# Altium footprint library Connector_Samtec_HLE_SMD.PcbLib: 290 footprints (part 22 of 24)
Each footprint in its own frame and in the unit in brackets; x right, y up, seen from the top. Pads: shape width x height; smd on the part's side, far side on the other; paste and mask are expansions set on the pad; w line width, h text height; cw(c..) or ccw(c..) is an arc to the next point about the centre after c.
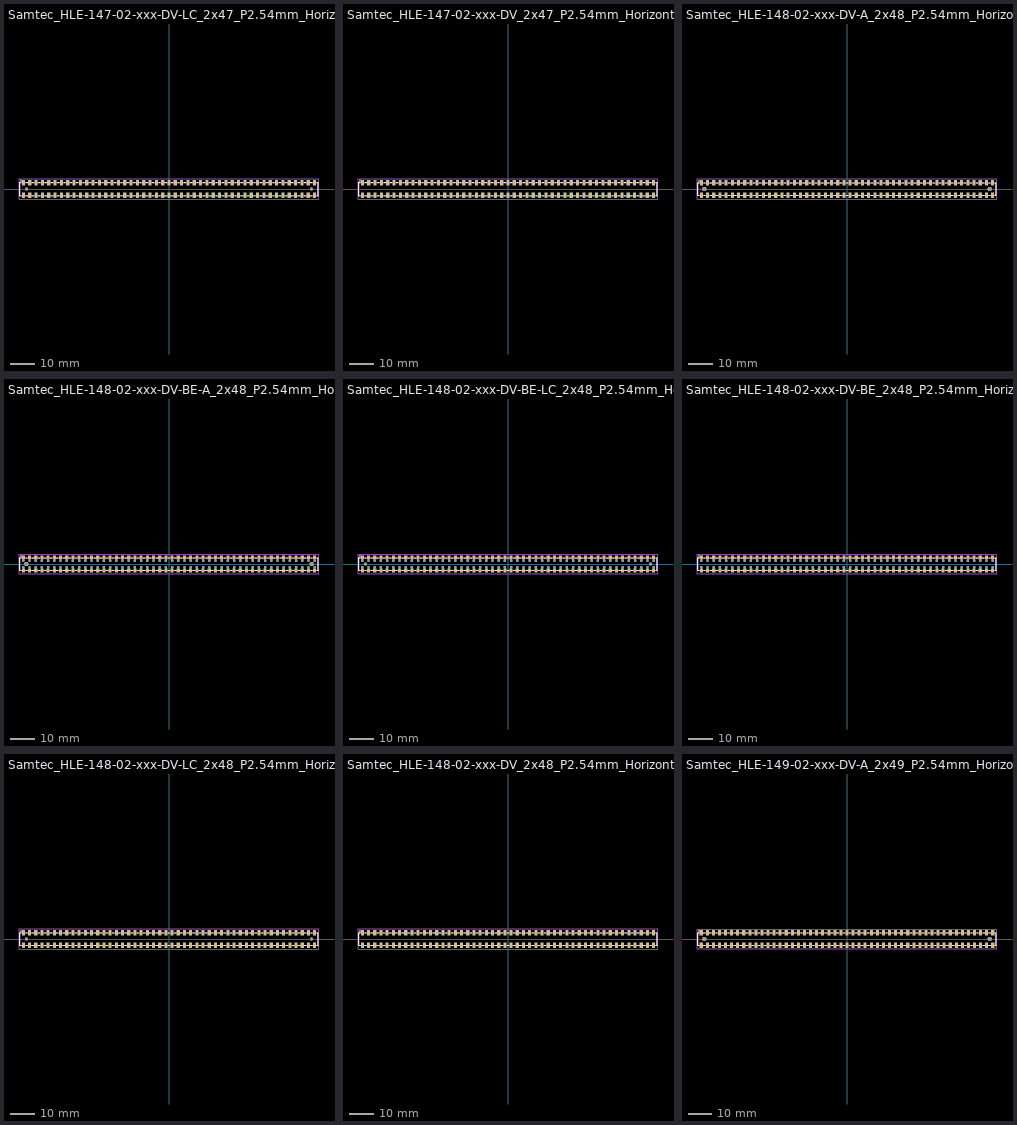
[diagram p21: the footprints below, top view; thin cyan lines are the x and y axes]

## Samtec_HLE-147-02-xxx-DV-LC_2x47_P2.54mm_Horizontal [mm]
pads (96):
  rect 1.27x2.29 smd: 1(-58.42,2.525) 2(-58.42,-2.525) 3(-55.88,2.525) 4(-55.88,-2.525) 5(-53.34,2.525) 6(-53.34,-2.525) 7(-50.8,2.525) 8(-50.8,-2.525) 9(-48.26,2.525) 10(-48.26,-2.525) 11(-45.72,2.525) 12(-45.72,-2.525) 13(-43.18,2.525) 14(-43.18,-2.525) 15(-40.64,2.525) 16(-40.64,-2.525) 17(-38.1,2.525) 18(-38.1,-2.525) 19(-35.56,2.525) 20(-35.56,-2.525) 21(-33.02,2.525) 22(-33.02,-2.525) 23(-30.48,2.525) 24(-30.48,-2.525) 25(-27.94,2.525) 26(-27.94,-2.525) 27(-25.4,2.525) 28(-25.4,-2.525) 29(-22.86,2.525) 30(-22.86,-2.525) 31(-20.32,2.525) 32(-20.32,-2.525) 33(-17.78,2.525) 34(-17.78,-2.525) 35(-15.24,2.525) 36(-15.24,-2.525) 37(-12.7,2.525) 38(-12.7,-2.525) 39(-10.16,2.525) 40(-10.16,-2.525) 41(-7.62,2.525) 42(-7.62,-2.525) 43(-5.08,2.525) 44(-5.08,-2.525) 45(-2.54,2.525) 46(-2.54,-2.525) 47(0,2.525) 48(0,-2.525) 49(2.54,2.525) 50(2.54,-2.525) 51(5.08,2.525) 52(5.08,-2.525) 53(7.62,2.525) 54(7.62,-2.525) 55(10.16,2.525) 56(10.16,-2.525) 57(12.7,2.525) 58(12.7,-2.525) 59(15.24,2.525) 60(15.24,-2.525) 61(17.78,2.525) 62(17.78,-2.525) 63(20.32,2.525) 64(20.32,-2.525) 65(22.86,2.525) 66(22.86,-2.525) 67(25.4,2.525) 68(25.4,-2.525) 69(27.94,2.525) 70(27.94,-2.525) 71(30.48,2.525) 72(30.48,-2.525) 73(33.02,2.525) 74(33.02,-2.525) 75(35.56,2.525) 76(35.56,-2.525) 77(38.1,2.525) 78(38.1,-2.525) 79(40.64,2.525) 80(40.64,-2.525) 81(43.18,2.525) 82(43.18,-2.525) 83(45.72,2.525) 84(45.72,-2.525) 85(48.26,2.525) 86(48.26,-2.525) 87(50.8,2.525) 88(50.8,-2.525) 89(53.34,2.525) 90(53.34,-2.525) 91(55.88,2.525) 92(55.88,-2.525) 93(58.42,2.525) 94(58.42,-2.525)
  round 1.19 hole 1.19: Un1(-57.15,0) Un2(57.15,0)
F.SilkS:
  lines w0.254: -59.315,-2.65 -59.8,-2.65 -59.8,2.65 -59.315,2.65 -59.315,3.67 ; -57.525,-2.65 -56.775,-2.65 ; -57.525,2.65 -56.775,2.65 ; -54.985,-2.65 -54.235,-2.65 ; -54.985,2.65 -54.235,2.65 ; -52.445,-2.65 -51.695,-2.65 ; -52.445,2.65 -51.695,2.65 ; -49.905,-2.65 -49.155,-2.65 ; -49.905,2.65 -49.155,2.65 ; -47.365,-2.65 -46.615,-2.65 ; -47.365,2.65 -46.615,2.65 ; -44.825,-2.65 -44.075,-2.65 ; -44.825,2.65 -44.075,2.65 ; -42.285,-2.65 -41.535,-2.65 ; -42.285,2.65 -41.535,2.65 ; -39.745,-2.65 -38.995,-2.65 ; -39.745,2.65 -38.995,2.65 ; -37.205,-2.65 -36.455,-2.65 ; -37.205,2.65 -36.455,2.65 ; -34.665,-2.65 -33.915,-2.65 ; -34.665,2.65 -33.915,2.65 ; -32.125,-2.65 -31.375,-2.65 ; -32.125,2.65 -31.375,2.65 ; -29.585,-2.65 -28.835,-2.65 ; -29.585,2.65 -28.835,2.65 ; -27.045,-2.65 -26.295,-2.65 ; -27.045,2.65 -26.295,2.65 ; -24.505,-2.65 -23.755,-2.65 ; -24.505,2.65 -23.755,2.65 ; -21.965,-2.65 -21.215,-2.65 ; -21.965,2.65 -21.215,2.65 ; -19.425,-2.65 -18.675,-2.65 ; -19.425,2.65 -18.675,2.65 ; -16.885,-2.65 -16.135,-2.65 ; -16.885,2.65 -16.135,2.65 ; -14.345,-2.65 -13.595,-2.65 ; -14.345,2.65 -13.595,2.65 ; -11.805,-2.65 -11.055,-2.65 ; -11.805,2.65 -11.055,2.65 ; -9.265,-2.65 -8.515,-2.65 ; -9.265,2.65 -8.515,2.65 ; -6.725,-2.65 -5.975,-2.65 ; -6.725,2.65 -5.975,2.65 ; -4.185,-2.65 -3.435,-2.65 ; -4.185,2.65 -3.435,2.65 ; -1.645,-2.65 -0.895,-2.65 ; -1.645,2.65 -0.895,2.65 ; 0.895,-2.65 1.645,-2.65 ; 0.895,2.65 1.645,2.65 ; 3.435,-2.65 4.185,-2.65 ; 3.435,2.65 4.185,2.65 ; 5.975,-2.65 6.725,-2.65 ; 5.975,2.65 6.725,2.65 ; 8.515,-2.65 9.265,-2.65 ; 8.515,2.65 9.265,2.65 ; 11.055,-2.65 11.805,-2.65 ; 11.055,2.65 11.805,2.65 ; 13.595,-2.65 14.345,-2.65 ; 13.595,2.65 14.345,2.65 ; 16.135,-2.65 16.885,-2.65 ; 16.135,2.65 16.885,2.65 ; 18.675,-2.65 19.425,-2.65 ; 18.675,2.65 19.425,2.65 ; 21.215,-2.65 21.965,-2.65 ; 21.215,2.65 21.965,2.65 ; 23.755,-2.65 24.505,-2.65 ; 23.755,2.65 24.505,2.65 ; 26.295,-2.65 27.045,-2.65 ; 26.295,2.65 27.045,2.65 ; 28.835,-2.65 29.585,-2.65 ; 28.835,2.65 29.585,2.65 ; 31.375,-2.65 32.125,-2.65 ; 31.375,2.65 32.125,2.65 ; 33.915,-2.65 34.665,-2.65 ; 33.915,2.65 34.665,2.65 ; 36.455,-2.65 37.205,-2.65 ; 36.455,2.65 37.205,2.65 ; 38.995,-2.65 39.745,-2.65 ; 38.995,2.65 39.745,2.65 ; 41.535,-2.65 42.285,-2.65 ; 41.535,2.65 42.285,2.65 ; 44.075,-2.65 44.825,-2.65 ; 44.075,2.65 44.825,2.65 ; 46.615,-2.65 47.365,-2.65 ; 46.615,2.65 47.365,2.65 ; 49.155,-2.65 49.905,-2.65 ; 49.155,2.65 49.905,2.65 ; 51.695,-2.65 52.445,-2.65 ; 51.695,2.65 52.445,2.65 ; 54.235,-2.65 54.985,-2.65 ; 54.235,2.65 54.985,2.65 ; 56.775,-2.65 57.525,-2.65 ; 56.775,2.65 57.525,2.65 ; 59.315,-2.65 59.8,-2.65 59.8,2.65 59.315,2.65
Top Assembly:
  lines w0.254: -58.92,2.54 -58.42,1.833 -57.92,2.54 ; -59.69,-2.54 59.69,-2.54 59.69,2.54 -59.69,2.54 -59.69,-2.54
  text "'.Designator'" at -4.047,-2.68 h1
Top Courtyard:
  lines w0.254: -60.19,-4.17 60.19,-4.17 60.19,4.17 -60.19,4.17 -60.19,-4.17
Top Designator:
  text ".Designator" at -7.618,-0.508 h1.52

## Samtec_HLE-147-02-xxx-DV_2x47_P2.54mm_Horizontal [mm]
pads (94):
  rect 1.27x2.29 smd: 1(-58.42,2.525) 2(-58.42,-2.525) 3(-55.88,2.525) 4(-55.88,-2.525) 5(-53.34,2.525) 6(-53.34,-2.525) 7(-50.8,2.525) 8(-50.8,-2.525) 9(-48.26,2.525) 10(-48.26,-2.525) 11(-45.72,2.525) 12(-45.72,-2.525) 13(-43.18,2.525) 14(-43.18,-2.525) 15(-40.64,2.525) 16(-40.64,-2.525) 17(-38.1,2.525) 18(-38.1,-2.525) 19(-35.56,2.525) 20(-35.56,-2.525) 21(-33.02,2.525) 22(-33.02,-2.525) 23(-30.48,2.525) 24(-30.48,-2.525) 25(-27.94,2.525) 26(-27.94,-2.525) 27(-25.4,2.525) 28(-25.4,-2.525) 29(-22.86,2.525) 30(-22.86,-2.525) 31(-20.32,2.525) 32(-20.32,-2.525) 33(-17.78,2.525) 34(-17.78,-2.525) 35(-15.24,2.525) 36(-15.24,-2.525) 37(-12.7,2.525) 38(-12.7,-2.525) 39(-10.16,2.525) 40(-10.16,-2.525) 41(-7.62,2.525) 42(-7.62,-2.525) 43(-5.08,2.525) 44(-5.08,-2.525) 45(-2.54,2.525) 46(-2.54,-2.525) 47(0,2.525) 48(0,-2.525) 49(2.54,2.525) 50(2.54,-2.525) 51(5.08,2.525) 52(5.08,-2.525) 53(7.62,2.525) 54(7.62,-2.525) 55(10.16,2.525) 56(10.16,-2.525) 57(12.7,2.525) 58(12.7,-2.525) 59(15.24,2.525) 60(15.24,-2.525) 61(17.78,2.525) 62(17.78,-2.525) 63(20.32,2.525) 64(20.32,-2.525) 65(22.86,2.525) 66(22.86,-2.525) 67(25.4,2.525) 68(25.4,-2.525) 69(27.94,2.525) 70(27.94,-2.525) 71(30.48,2.525) 72(30.48,-2.525) 73(33.02,2.525) 74(33.02,-2.525) 75(35.56,2.525) 76(35.56,-2.525) 77(38.1,2.525) 78(38.1,-2.525) 79(40.64,2.525) 80(40.64,-2.525) 81(43.18,2.525) 82(43.18,-2.525) 83(45.72,2.525) 84(45.72,-2.525) 85(48.26,2.525) 86(48.26,-2.525) 87(50.8,2.525) 88(50.8,-2.525) 89(53.34,2.525) 90(53.34,-2.525) 91(55.88,2.525) 92(55.88,-2.525) 93(58.42,2.525) 94(58.42,-2.525)
F.SilkS:
  lines w0.254: -59.315,-2.65 -59.8,-2.65 -59.8,2.65 -59.315,2.65 -59.315,3.67 ; -57.525,-2.65 -56.775,-2.65 ; -57.525,2.65 -56.775,2.65 ; -54.985,-2.65 -54.235,-2.65 ; -54.985,2.65 -54.235,2.65 ; -52.445,-2.65 -51.695,-2.65 ; -52.445,2.65 -51.695,2.65 ; -49.905,-2.65 -49.155,-2.65 ; -49.905,2.65 -49.155,2.65 ; -47.365,-2.65 -46.615,-2.65 ; -47.365,2.65 -46.615,2.65 ; -44.825,-2.65 -44.075,-2.65 ; -44.825,2.65 -44.075,2.65 ; -42.285,-2.65 -41.535,-2.65 ; -42.285,2.65 -41.535,2.65 ; -39.745,-2.65 -38.995,-2.65 ; -39.745,2.65 -38.995,2.65 ; -37.205,-2.65 -36.455,-2.65 ; -37.205,2.65 -36.455,2.65 ; -34.665,-2.65 -33.915,-2.65 ; -34.665,2.65 -33.915,2.65 ; -32.125,-2.65 -31.375,-2.65 ; -32.125,2.65 -31.375,2.65 ; -29.585,-2.65 -28.835,-2.65 ; -29.585,2.65 -28.835,2.65 ; -27.045,-2.65 -26.295,-2.65 ; -27.045,2.65 -26.295,2.65 ; -24.505,-2.65 -23.755,-2.65 ; -24.505,2.65 -23.755,2.65 ; -21.965,-2.65 -21.215,-2.65 ; -21.965,2.65 -21.215,2.65 ; -19.425,-2.65 -18.675,-2.65 ; -19.425,2.65 -18.675,2.65 ; -16.885,-2.65 -16.135,-2.65 ; -16.885,2.65 -16.135,2.65 ; -14.345,-2.65 -13.595,-2.65 ; -14.345,2.65 -13.595,2.65 ; -11.805,-2.65 -11.055,-2.65 ; -11.805,2.65 -11.055,2.65 ; -9.265,-2.65 -8.515,-2.65 ; -9.265,2.65 -8.515,2.65 ; -6.725,-2.65 -5.975,-2.65 ; -6.725,2.65 -5.975,2.65 ; -4.185,-2.65 -3.435,-2.65 ; -4.185,2.65 -3.435,2.65 ; -1.645,-2.65 -0.895,-2.65 ; -1.645,2.65 -0.895,2.65 ; 0.895,-2.65 1.645,-2.65 ; 0.895,2.65 1.645,2.65 ; 3.435,-2.65 4.185,-2.65 ; 3.435,2.65 4.185,2.65 ; 5.975,-2.65 6.725,-2.65 ; 5.975,2.65 6.725,2.65 ; 8.515,-2.65 9.265,-2.65 ; 8.515,2.65 9.265,2.65 ; 11.055,-2.65 11.805,-2.65 ; 11.055,2.65 11.805,2.65 ; 13.595,-2.65 14.345,-2.65 ; 13.595,2.65 14.345,2.65 ; 16.135,-2.65 16.885,-2.65 ; 16.135,2.65 16.885,2.65 ; 18.675,-2.65 19.425,-2.65 ; 18.675,2.65 19.425,2.65 ; 21.215,-2.65 21.965,-2.65 ; 21.215,2.65 21.965,2.65 ; 23.755,-2.65 24.505,-2.65 ; 23.755,2.65 24.505,2.65 ; 26.295,-2.65 27.045,-2.65 ; 26.295,2.65 27.045,2.65 ; 28.835,-2.65 29.585,-2.65 ; 28.835,2.65 29.585,2.65 ; 31.375,-2.65 32.125,-2.65 ; 31.375,2.65 32.125,2.65 ; 33.915,-2.65 34.665,-2.65 ; 33.915,2.65 34.665,2.65 ; 36.455,-2.65 37.205,-2.65 ; 36.455,2.65 37.205,2.65 ; 38.995,-2.65 39.745,-2.65 ; 38.995,2.65 39.745,2.65 ; 41.535,-2.65 42.285,-2.65 ; 41.535,2.65 42.285,2.65 ; 44.075,-2.65 44.825,-2.65 ; 44.075,2.65 44.825,2.65 ; 46.615,-2.65 47.365,-2.65 ; 46.615,2.65 47.365,2.65 ; 49.155,-2.65 49.905,-2.65 ; 49.155,2.65 49.905,2.65 ; 51.695,-2.65 52.445,-2.65 ; 51.695,2.65 52.445,2.65 ; 54.235,-2.65 54.985,-2.65 ; 54.235,2.65 54.985,2.65 ; 56.775,-2.65 57.525,-2.65 ; 56.775,2.65 57.525,2.65 ; 59.315,-2.65 59.8,-2.65 59.8,2.65 59.315,2.65
Top Assembly:
  lines w0.254: -58.92,2.54 -58.42,1.833 -57.92,2.54 ; -59.69,-2.54 59.69,-2.54 59.69,2.54 -59.69,2.54 -59.69,-2.54
  text "'.Designator'" at -4.047,-2.68 h1
Top Courtyard:
  lines w0.254: -60.19,-4.17 60.19,-4.17 60.19,4.17 -60.19,4.17 -60.19,-4.17
Top Designator:
  text ".Designator" at -7.618,-0.508 h1.52

## Samtec_HLE-148-02-xxx-DV-A_2x48_P2.54mm_Horizontal [mm]
pads (98):
  rect 1.27x2.29 smd: 1(-59.69,2.525) 2(-59.69,-2.525) 3(-57.15,2.525) 4(-57.15,-2.525) 5(-54.61,2.525) 6(-54.61,-2.525) 7(-52.07,2.525) 8(-52.07,-2.525) 9(-49.53,2.525) 10(-49.53,-2.525) 11(-46.99,2.525) 12(-46.99,-2.525) 13(-44.45,2.525) 14(-44.45,-2.525) 15(-41.91,2.525) 16(-41.91,-2.525) 17(-39.37,2.525) 18(-39.37,-2.525) 19(-36.83,2.525) 20(-36.83,-2.525) 21(-34.29,2.525) 22(-34.29,-2.525) 23(-31.75,2.525) 24(-31.75,-2.525) 25(-29.21,2.525) 26(-29.21,-2.525) 27(-26.67,2.525) 28(-26.67,-2.525) 29(-24.13,2.525) 30(-24.13,-2.525) 31(-21.59,2.525) 32(-21.59,-2.525) 33(-19.05,2.525) 34(-19.05,-2.525) 35(-16.51,2.525) 36(-16.51,-2.525) 37(-13.97,2.525) 38(-13.97,-2.525) 39(-11.43,2.525) 40(-11.43,-2.525) 41(-8.89,2.525) 42(-8.89,-2.525) 43(-6.35,2.525) 44(-6.35,-2.525) 45(-3.81,2.525) 46(-3.81,-2.525) 47(-1.27,2.525) 48(-1.27,-2.525) 49(1.27,2.525) 50(1.27,-2.525) 51(3.81,2.525) 52(3.81,-2.525) 53(6.35,2.525) 54(6.35,-2.525) 55(8.89,2.525) 56(8.89,-2.525) 57(11.43,2.525) 58(11.43,-2.525) 59(13.97,2.525) 60(13.97,-2.525) 61(16.51,2.525) 62(16.51,-2.525) 63(19.05,2.525) 64(19.05,-2.525) 65(21.59,2.525) 66(21.59,-2.525) 67(24.13,2.525) 68(24.13,-2.525) 69(26.67,2.525) 70(26.67,-2.525) 71(29.21,2.525) 72(29.21,-2.525) 73(31.75,2.525) 74(31.75,-2.525) 75(34.29,2.525) 76(34.29,-2.525) 77(36.83,2.525) 78(36.83,-2.525) 79(39.37,2.525) 80(39.37,-2.525) 81(41.91,2.525) 82(41.91,-2.525) 83(44.45,2.525) 84(44.45,-2.525) 85(46.99,2.525) 86(46.99,-2.525) 87(49.53,2.525) 88(49.53,-2.525) 89(52.07,2.525) 90(52.07,-2.525) 91(54.61,2.525) 92(54.61,-2.525) 93(57.15,2.525) 94(57.15,-2.525) 95(59.69,2.525) 96(59.69,-2.525)
  round 1.78 hole 1.78: Un1(-58.42,0) Un2(58.42,0)
F.SilkS:
  lines w0.254: -60.585,-2.65 -61.07,-2.65 -61.07,2.65 -60.585,2.65 -60.585,3.67 ; -58.795,-2.65 -58.045,-2.65 ; -58.795,2.65 -58.045,2.65 ; -56.255,-2.65 -55.505,-2.65 ; -56.255,2.65 -55.505,2.65 ; -53.715,-2.65 -52.965,-2.65 ; -53.715,2.65 -52.965,2.65 ; -51.175,-2.65 -50.425,-2.65 ; -51.175,2.65 -50.425,2.65 ; -48.635,-2.65 -47.885,-2.65 ; -48.635,2.65 -47.885,2.65 ; -46.095,-2.65 -45.345,-2.65 ; -46.095,2.65 -45.345,2.65 ; -43.555,-2.65 -42.805,-2.65 ; -43.555,2.65 -42.805,2.65 ; -41.015,-2.65 -40.265,-2.65 ; -41.015,2.65 -40.265,2.65 ; -38.475,-2.65 -37.725,-2.65 ; -38.475,2.65 -37.725,2.65 ; -35.935,-2.65 -35.185,-2.65 ; -35.935,2.65 -35.185,2.65 ; -33.395,-2.65 -32.645,-2.65 ; -33.395,2.65 -32.645,2.65 ; -30.855,-2.65 -30.105,-2.65 ; -30.855,2.65 -30.105,2.65 ; -28.315,-2.65 -27.565,-2.65 ; -28.315,2.65 -27.565,2.65 ; -25.775,-2.65 -25.025,-2.65 ; -25.775,2.65 -25.025,2.65 ; -23.235,-2.65 -22.485,-2.65 ; -23.235,2.65 -22.485,2.65 ; -20.695,-2.65 -19.945,-2.65 ; -20.695,2.65 -19.945,2.65 ; -18.155,-2.65 -17.405,-2.65 ; -18.155,2.65 -17.405,2.65 ; -15.615,-2.65 -14.865,-2.65 ; -15.615,2.65 -14.865,2.65 ; -13.075,-2.65 -12.325,-2.65 ; -13.075,2.65 -12.325,2.65 ; -10.535,-2.65 -9.785,-2.65 ; -10.535,2.65 -9.785,2.65 ; -7.995,-2.65 -7.245,-2.65 ; -7.995,2.65 -7.245,2.65 ; -5.455,-2.65 -4.705,-2.65 ; -5.455,2.65 -4.705,2.65 ; -2.915,-2.65 -2.165,-2.65 ; -2.915,2.65 -2.165,2.65 ; -0.375,-2.65 0.375,-2.65 ; -0.375,2.65 0.375,2.65 ; 2.165,-2.65 2.915,-2.65 ; 2.165,2.65 2.915,2.65 ; 4.705,-2.65 5.455,-2.65 ; 4.705,2.65 5.455,2.65 ; 7.245,-2.65 7.995,-2.65 ; 7.245,2.65 7.995,2.65 ; 9.785,-2.65 10.535,-2.65 ; 9.785,2.65 10.535,2.65 ; 12.325,-2.65 13.075,-2.65 ; 12.325,2.65 13.075,2.65 ; 14.865,-2.65 15.615,-2.65 ; 14.865,2.65 15.615,2.65 ; 17.405,-2.65 18.155,-2.65 ; 17.405,2.65 18.155,2.65 ; 19.945,-2.65 20.695,-2.65 ; 19.945,2.65 20.695,2.65 ; 22.485,-2.65 23.235,-2.65 ; 22.485,2.65 23.235,2.65 ; 25.025,-2.65 25.775,-2.65 ; 25.025,2.65 25.775,2.65 ; 27.565,-2.65 28.315,-2.65 ; 27.565,2.65 28.315,2.65 ; 30.105,-2.65 30.855,-2.65 ; 30.105,2.65 30.855,2.65 ; 32.645,-2.65 33.395,-2.65 ; 32.645,2.65 33.395,2.65 ; 35.185,-2.65 35.935,-2.65 ; 35.185,2.65 35.935,2.65 ; 37.725,-2.65 38.475,-2.65 ; 37.725,2.65 38.475,2.65 ; 40.265,-2.65 41.015,-2.65 ; 40.265,2.65 41.015,2.65 ; 42.805,-2.65 43.555,-2.65 ; 42.805,2.65 43.555,2.65 ; 45.345,-2.65 46.095,-2.65 ; 45.345,2.65 46.095,2.65 ; 47.885,-2.65 48.635,-2.65 ; 47.885,2.65 48.635,2.65 ; 50.425,-2.65 51.175,-2.65 ; 50.425,2.65 51.175,2.65 ; 52.965,-2.65 53.715,-2.65 ; 52.965,2.65 53.715,2.65 ; 55.505,-2.65 56.255,-2.65 ; 55.505,2.65 56.255,2.65 ; 58.045,-2.65 58.795,-2.65 ; 58.045,2.65 58.795,2.65 ; 60.585,-2.65 61.07,-2.65 61.07,2.65 60.585,2.65
Top Assembly:
  lines w0.254: -60.19,2.54 -59.69,1.833 -59.19,2.54 ; -60.96,-2.54 60.96,-2.54 60.96,2.54 -60.96,2.54 -60.96,-2.54
  text "'.Designator'" at -4.047,-2.68 h1
Top Courtyard:
  lines w0.254: -61.46,-4.17 61.46,-4.17 61.46,4.17 -61.46,4.17 -61.46,-4.17
Top Designator:
  text ".Designator" at -7.618,-0.508 h1.52

## Samtec_HLE-148-02-xxx-DV-BE-A_2x48_P2.54mm_Horizontal [mm]
pads (194):
  rect 1.27x1.68 smd: 1(-59.69,2.72) 2(-59.69,-2.72) 3(-57.15,2.72) 4(-57.15,-2.72) 5(-54.61,2.72) 6(-54.61,-2.72) 7(-52.07,2.72) 8(-52.07,-2.72) 9(-49.53,2.72) 10(-49.53,-2.72) 11(-46.99,2.72) 12(-46.99,-2.72) 13(-44.45,2.72) 14(-44.45,-2.72) 15(-41.91,2.72) 16(-41.91,-2.72) 17(-39.37,2.72) 18(-39.37,-2.72) 19(-36.83,2.72) 20(-36.83,-2.72) 21(-34.29,2.72) 22(-34.29,-2.72) 23(-31.75,2.72) 24(-31.75,-2.72) 25(-29.21,2.72) 26(-29.21,-2.72) 27(-26.67,2.72) 28(-26.67,-2.72) 29(-24.13,2.72) 30(-24.13,-2.72) 31(-21.59,2.72) 32(-21.59,-2.72) 33(-19.05,2.72) 34(-19.05,-2.72) 35(-16.51,2.72) 36(-16.51,-2.72) 37(-13.97,2.72) 38(-13.97,-2.72) 39(-11.43,2.72) 40(-11.43,-2.72) 41(-8.89,2.72) 42(-8.89,-2.72) 43(-6.35,2.72) 44(-6.35,-2.72) 45(-3.81,2.72) 46(-3.81,-2.72) 47(-1.27,2.72) 48(-1.27,-2.72) 49(1.27,2.72) 50(1.27,-2.72) 51(3.81,2.72) 52(3.81,-2.72) 53(6.35,2.72) 54(6.35,-2.72) 55(8.89,2.72) 56(8.89,-2.72) 57(11.43,2.72) 58(11.43,-2.72) 59(13.97,2.72) 60(13.97,-2.72) 61(16.51,2.72) 62(16.51,-2.72) 63(19.05,2.72) 64(19.05,-2.72) 65(21.59,2.72) 66(21.59,-2.72) 67(24.13,2.72) 68(24.13,-2.72) 69(26.67,2.72) 70(26.67,-2.72) 71(29.21,2.72) 72(29.21,-2.72) 73(31.75,2.72) 74(31.75,-2.72) 75(34.29,2.72) 76(34.29,-2.72) 77(36.83,2.72) 78(36.83,-2.72) 79(39.37,2.72) 80(39.37,-2.72) 81(41.91,2.72) 82(41.91,-2.72) 83(44.45,2.72) 84(44.45,-2.72) 85(46.99,2.72) 86(46.99,-2.72) 87(49.53,2.72) 88(49.53,-2.72) 89(52.07,2.72) 90(52.07,-2.72) 91(54.61,2.72) 92(54.61,-2.72) 93(57.15,2.72) 94(57.15,-2.72) 95(59.69,2.72) 96(59.69,-2.72)
  round 0.97 hole 0.97: Un1(-59.69,1.27) Un2(-59.69,-1.27) Un4(-57.15,1.27) Un5(-57.15,-1.27) Un6(-54.61,1.27) Un7(-54.61,-1.27) Un8(-52.07,1.27) Un9(-52.07,-1.27) Un10(-49.53,1.27) Un11(-49.53,-1.27) Un12(-46.99,1.27) Un13(-46.99,-1.27) Un14(-44.45,1.27) Un15(-44.45,-1.27) Un16(-41.91,1.27) Un17(-41.91,-1.27) Un18(-39.37,1.27) Un19(-39.37,-1.27) Un20(-36.83,1.27) Un21(-36.83,-1.27) Un22(-34.29,1.27) Un23(-34.29,-1.27) Un24(-31.75,1.27) Un25(-31.75,-1.27) Un26(-29.21,1.27) Un27(-29.21,-1.27) Un28(-26.67,1.27) Un29(-26.67,-1.27) Un30(-24.13,1.27) Un31(-24.13,-1.27) Un32(-21.59,1.27) Un33(-21.59,-1.27) Un34(-19.05,1.27) Un35(-19.05,-1.27) Un36(-16.51,1.27) Un37(-16.51,-1.27) Un38(-13.97,1.27) Un39(-13.97,-1.27) Un40(-11.43,1.27) Un41(-11.43,-1.27) Un42(-8.89,1.27) Un43(-8.89,-1.27) Un44(-6.35,1.27) Un45(-6.35,-1.27) Un46(-3.81,1.27) Un47(-3.81,-1.27) Un48(-1.27,1.27) Un49(-1.27,-1.27) Un50(1.27,1.27) Un51(1.27,-1.27) Un52(3.81,1.27) Un53(3.81,-1.27) Un54(6.35,1.27) Un55(6.35,-1.27) Un56(8.89,1.27) Un57(8.89,-1.27) Un58(11.43,1.27) Un59(11.43,-1.27) Un60(13.97,1.27) Un61(13.97,-1.27) Un62(16.51,1.27) Un63(16.51,-1.27) Un64(19.05,1.27) Un65(19.05,-1.27) Un66(21.59,1.27) Un67(21.59,-1.27) Un68(24.13,1.27) Un69(24.13,-1.27) Un70(26.67,1.27) Un71(26.67,-1.27) Un72(29.21,1.27) Un73(29.21,-1.27) Un74(31.75,1.27) Un75(31.75,-1.27) Un76(34.29,1.27) Un77(34.29,-1.27) Un78(36.83,1.27) Un79(36.83,-1.27) Un80(39.37,1.27) Un81(39.37,-1.27) Un82(41.91,1.27) Un83(41.91,-1.27) Un84(44.45,1.27) Un85(44.45,-1.27) Un86(46.99,1.27) Un87(46.99,-1.27) Un88(49.53,1.27) Un89(49.53,-1.27) Un90(52.07,1.27) Un91(52.07,-1.27) Un92(54.61,1.27) Un93(54.61,-1.27) Un94(57.15,1.27) Un95(57.15,-1.27) Un97(59.69,1.27) Un98(59.69,-1.27)
  round 1.78 hole 1.78: Un3(-58.42,0) Un96(58.42,0)
F.SilkS:
  lines w0.254: -60.585,-2.65 -61.07,-2.65 -61.07,2.65 -60.585,2.65 -60.585,3.56 ; -58.795,-2.65 -58.045,-2.65 ; -58.795,2.65 -58.045,2.65 ; -56.255,-2.65 -55.505,-2.65 ; -56.255,2.65 -55.505,2.65 ; -53.715,-2.65 -52.965,-2.65 ; -53.715,2.65 -52.965,2.65 ; -51.175,-2.65 -50.425,-2.65 ; -51.175,2.65 -50.425,2.65 ; -48.635,-2.65 -47.885,-2.65 ; -48.635,2.65 -47.885,2.65 ; -46.095,-2.65 -45.345,-2.65 ; -46.095,2.65 -45.345,2.65 ; -43.555,-2.65 -42.805,-2.65 ; -43.555,2.65 -42.805,2.65 ; -41.015,-2.65 -40.265,-2.65 ; -41.015,2.65 -40.265,2.65 ; -38.475,-2.65 -37.725,-2.65 ; -38.475,2.65 -37.725,2.65 ; -35.935,-2.65 -35.185,-2.65 ; -35.935,2.65 -35.185,2.65 ; -33.395,-2.65 -32.645,-2.65 ; -33.395,2.65 -32.645,2.65 ; -30.855,-2.65 -30.105,-2.65 ; -30.855,2.65 -30.105,2.65 ; -28.315,-2.65 -27.565,-2.65 ; -28.315,2.65 -27.565,2.65 ; -25.775,-2.65 -25.025,-2.65 ; -25.775,2.65 -25.025,2.65 ; -23.235,-2.65 -22.485,-2.65 ; -23.235,2.65 -22.485,2.65 ; -20.695,-2.65 -19.945,-2.65 ; -20.695,2.65 -19.945,2.65 ; -18.155,-2.65 -17.405,-2.65 ; -18.155,2.65 -17.405,2.65 ; -15.615,-2.65 -14.865,-2.65 ; -15.615,2.65 -14.865,2.65 ; -13.075,-2.65 -12.325,-2.65 ; -13.075,2.65 -12.325,2.65 ; -10.535,-2.65 -9.785,-2.65 ; -10.535,2.65 -9.785,2.65 ; -7.995,-2.65 -7.245,-2.65 ; -7.995,2.65 -7.245,2.65 ; -5.455,-2.65 -4.705,-2.65 ; -5.455,2.65 -4.705,2.65 ; -2.915,-2.65 -2.165,-2.65 ; -2.915,2.65 -2.165,2.65 ; -0.375,-2.65 0.375,-2.65 ; -0.375,2.65 0.375,2.65 ; 2.165,-2.65 2.915,-2.65 ; 2.165,2.65 2.915,2.65 ; 4.705,-2.65 5.455,-2.65 ; 4.705,2.65 5.455,2.65 ; 7.245,-2.65 7.995,-2.65 ; 7.245,2.65 7.995,2.65 ; 9.785,-2.65 10.535,-2.65 ; 9.785,2.65 10.535,2.65 ; 12.325,-2.65 13.075,-2.65 ; 12.325,2.65 13.075,2.65 ; 14.865,-2.65 15.615,-2.65 ; 14.865,2.65 15.615,2.65 ; 17.405,-2.65 18.155,-2.65 ; 17.405,2.65 18.155,2.65 ; 19.945,-2.65 20.695,-2.65 ; 19.945,2.65 20.695,2.65 ; 22.485,-2.65 23.235,-2.65 ; 22.485,2.65 23.235,2.65 ; 25.025,-2.65 25.775,-2.65 ; 25.025,2.65 25.775,2.65 ; 27.565,-2.65 28.315,-2.65 ; 27.565,2.65 28.315,2.65 ; 30.105,-2.65 30.855,-2.65 ; 30.105,2.65 30.855,2.65 ; 32.645,-2.65 33.395,-2.65 ; 32.645,2.65 33.395,2.65 ; 35.185,-2.65 35.935,-2.65 ; 35.185,2.65 35.935,2.65 ; 37.725,-2.65 38.475,-2.65 ; 37.725,2.65 38.475,2.65 ; 40.265,-2.65 41.015,-2.65 ; 40.265,2.65 41.015,2.65 ; 42.805,-2.65 43.555,-2.65 ; 42.805,2.65 43.555,2.65 ; 45.345,-2.65 46.095,-2.65 ; 45.345,2.65 46.095,2.65 ; 47.885,-2.65 48.635,-2.65 ; 47.885,2.65 48.635,2.65 ; 50.425,-2.65 51.175,-2.65 ; 50.425,2.65 51.175,2.65 ; 52.965,-2.65 53.715,-2.65 ; 52.965,2.65 53.715,2.65 ; 55.505,-2.65 56.255,-2.65 ; 55.505,2.65 56.255,2.65 ; 58.045,-2.65 58.795,-2.65 ; 58.045,2.65 58.795,2.65 ; 60.585,-2.65 61.07,-2.65 61.07,2.65 60.585,2.65
Top Assembly:
  lines w0.254: -60.19,2.54 -59.69,1.833 -59.19,2.54 ; -60.96,-2.54 60.96,-2.54 60.96,2.54 -60.96,2.54 -60.96,-2.54
  text "'.Designator'" at -4.047,-2.68 h1
Top Courtyard:
  lines w0.254: -61.46,-4.07 61.46,-4.07 61.46,4.07 -61.46,4.07 -61.46,-4.07
Top Designator:
  text ".Designator" at -7.618,-0.508 h1.52

## Samtec_HLE-148-02-xxx-DV-BE-LC_2x48_P2.54mm_Horizontal [mm]
pads (194):
  rect 1.27x1.68 smd: 1(-59.69,2.72) 2(-59.69,-2.72) 3(-57.15,2.72) 4(-57.15,-2.72) 5(-54.61,2.72) 6(-54.61,-2.72) 7(-52.07,2.72) 8(-52.07,-2.72) 9(-49.53,2.72) 10(-49.53,-2.72) 11(-46.99,2.72) 12(-46.99,-2.72) 13(-44.45,2.72) 14(-44.45,-2.72) 15(-41.91,2.72) 16(-41.91,-2.72) 17(-39.37,2.72) 18(-39.37,-2.72) 19(-36.83,2.72) 20(-36.83,-2.72) 21(-34.29,2.72) 22(-34.29,-2.72) 23(-31.75,2.72) 24(-31.75,-2.72) 25(-29.21,2.72) 26(-29.21,-2.72) 27(-26.67,2.72) 28(-26.67,-2.72) 29(-24.13,2.72) 30(-24.13,-2.72) 31(-21.59,2.72) 32(-21.59,-2.72) 33(-19.05,2.72) 34(-19.05,-2.72) 35(-16.51,2.72) 36(-16.51,-2.72) 37(-13.97,2.72) 38(-13.97,-2.72) 39(-11.43,2.72) 40(-11.43,-2.72) 41(-8.89,2.72) 42(-8.89,-2.72) 43(-6.35,2.72) 44(-6.35,-2.72) 45(-3.81,2.72) 46(-3.81,-2.72) 47(-1.27,2.72) 48(-1.27,-2.72) 49(1.27,2.72) 50(1.27,-2.72) 51(3.81,2.72) 52(3.81,-2.72) 53(6.35,2.72) 54(6.35,-2.72) 55(8.89,2.72) 56(8.89,-2.72) 57(11.43,2.72) 58(11.43,-2.72) 59(13.97,2.72) 60(13.97,-2.72) 61(16.51,2.72) 62(16.51,-2.72) 63(19.05,2.72) 64(19.05,-2.72) 65(21.59,2.72) 66(21.59,-2.72) 67(24.13,2.72) 68(24.13,-2.72) 69(26.67,2.72) 70(26.67,-2.72) 71(29.21,2.72) 72(29.21,-2.72) 73(31.75,2.72) 74(31.75,-2.72) 75(34.29,2.72) 76(34.29,-2.72) 77(36.83,2.72) 78(36.83,-2.72) 79(39.37,2.72) 80(39.37,-2.72) 81(41.91,2.72) 82(41.91,-2.72) 83(44.45,2.72) 84(44.45,-2.72) 85(46.99,2.72) 86(46.99,-2.72) 87(49.53,2.72) 88(49.53,-2.72) 89(52.07,2.72) 90(52.07,-2.72) 91(54.61,2.72) 92(54.61,-2.72) 93(57.15,2.72) 94(57.15,-2.72) 95(59.69,2.72) 96(59.69,-2.72)
  round 0.97 hole 0.97: Un1(-59.69,1.27) Un2(-59.69,-1.27) Un4(-57.15,1.27) Un5(-57.15,-1.27) Un6(-54.61,1.27) Un7(-54.61,-1.27) Un8(-52.07,1.27) Un9(-52.07,-1.27) Un10(-49.53,1.27) Un11(-49.53,-1.27) Un12(-46.99,1.27) Un13(-46.99,-1.27) Un14(-44.45,1.27) Un15(-44.45,-1.27) Un16(-41.91,1.27) Un17(-41.91,-1.27) Un18(-39.37,1.27) Un19(-39.37,-1.27) Un20(-36.83,1.27) Un21(-36.83,-1.27) Un22(-34.29,1.27) Un23(-34.29,-1.27) Un24(-31.75,1.27) Un25(-31.75,-1.27) Un26(-29.21,1.27) Un27(-29.21,-1.27) Un28(-26.67,1.27) Un29(-26.67,-1.27) Un30(-24.13,1.27) Un31(-24.13,-1.27) Un32(-21.59,1.27) Un33(-21.59,-1.27) Un34(-19.05,1.27) Un35(-19.05,-1.27) Un36(-16.51,1.27) Un37(-16.51,-1.27) Un38(-13.97,1.27) Un39(-13.97,-1.27) Un40(-11.43,1.27) Un41(-11.43,-1.27) Un42(-8.89,1.27) Un43(-8.89,-1.27) Un44(-6.35,1.27) Un45(-6.35,-1.27) Un46(-3.81,1.27) Un47(-3.81,-1.27) Un48(-1.27,1.27) Un49(-1.27,-1.27) Un50(1.27,1.27) Un51(1.27,-1.27) Un52(3.81,1.27) Un53(3.81,-1.27) Un54(6.35,1.27) Un55(6.35,-1.27) Un56(8.89,1.27) Un57(8.89,-1.27) Un58(11.43,1.27) Un59(11.43,-1.27) Un60(13.97,1.27) Un61(13.97,-1.27) Un62(16.51,1.27) Un63(16.51,-1.27) Un64(19.05,1.27) Un65(19.05,-1.27) Un66(21.59,1.27) Un67(21.59,-1.27) Un68(24.13,1.27) Un69(24.13,-1.27) Un70(26.67,1.27) Un71(26.67,-1.27) Un72(29.21,1.27) Un73(29.21,-1.27) Un74(31.75,1.27) Un75(31.75,-1.27) Un76(34.29,1.27) Un77(34.29,-1.27) Un78(36.83,1.27) Un79(36.83,-1.27) Un80(39.37,1.27) Un81(39.37,-1.27) Un82(41.91,1.27) Un83(41.91,-1.27) Un84(44.45,1.27) Un85(44.45,-1.27) Un86(46.99,1.27) Un87(46.99,-1.27) Un88(49.53,1.27) Un89(49.53,-1.27) Un90(52.07,1.27) Un91(52.07,-1.27) Un92(54.61,1.27) Un93(54.61,-1.27) Un94(57.15,1.27) Un95(57.15,-1.27) Un97(59.69,1.27) Un98(59.69,-1.27)
  round 1.19 hole 1.19: Un3(-58.42,0) Un96(58.42,0)
F.SilkS:
  lines w0.254: -60.585,-2.65 -61.07,-2.65 -61.07,2.65 -60.585,2.65 -60.585,3.56 ; -58.795,-2.65 -58.045,-2.65 ; -58.795,2.65 -58.045,2.65 ; -56.255,-2.65 -55.505,-2.65 ; -56.255,2.65 -55.505,2.65 ; -53.715,-2.65 -52.965,-2.65 ; -53.715,2.65 -52.965,2.65 ; -51.175,-2.65 -50.425,-2.65 ; -51.175,2.65 -50.425,2.65 ; -48.635,-2.65 -47.885,-2.65 ; -48.635,2.65 -47.885,2.65 ; -46.095,-2.65 -45.345,-2.65 ; -46.095,2.65 -45.345,2.65 ; -43.555,-2.65 -42.805,-2.65 ; -43.555,2.65 -42.805,2.65 ; -41.015,-2.65 -40.265,-2.65 ; -41.015,2.65 -40.265,2.65 ; -38.475,-2.65 -37.725,-2.65 ; -38.475,2.65 -37.725,2.65 ; -35.935,-2.65 -35.185,-2.65 ; -35.935,2.65 -35.185,2.65 ; -33.395,-2.65 -32.645,-2.65 ; -33.395,2.65 -32.645,2.65 ; -30.855,-2.65 -30.105,-2.65 ; -30.855,2.65 -30.105,2.65 ; -28.315,-2.65 -27.565,-2.65 ; -28.315,2.65 -27.565,2.65 ; -25.775,-2.65 -25.025,-2.65 ; -25.775,2.65 -25.025,2.65 ; -23.235,-2.65 -22.485,-2.65 ; -23.235,2.65 -22.485,2.65 ; -20.695,-2.65 -19.945,-2.65 ; -20.695,2.65 -19.945,2.65 ; -18.155,-2.65 -17.405,-2.65 ; -18.155,2.65 -17.405,2.65 ; -15.615,-2.65 -14.865,-2.65 ; -15.615,2.65 -14.865,2.65 ; -13.075,-2.65 -12.325,-2.65 ; -13.075,2.65 -12.325,2.65 ; -10.535,-2.65 -9.785,-2.65 ; -10.535,2.65 -9.785,2.65 ; -7.995,-2.65 -7.245,-2.65 ; -7.995,2.65 -7.245,2.65 ; -5.455,-2.65 -4.705,-2.65 ; -5.455,2.65 -4.705,2.65 ; -2.915,-2.65 -2.165,-2.65 ; -2.915,2.65 -2.165,2.65 ; -0.375,-2.65 0.375,-2.65 ; -0.375,2.65 0.375,2.65 ; 2.165,-2.65 2.915,-2.65 ; 2.165,2.65 2.915,2.65 ; 4.705,-2.65 5.455,-2.65 ; 4.705,2.65 5.455,2.65 ; 7.245,-2.65 7.995,-2.65 ; 7.245,2.65 7.995,2.65 ; 9.785,-2.65 10.535,-2.65 ; 9.785,2.65 10.535,2.65 ; 12.325,-2.65 13.075,-2.65 ; 12.325,2.65 13.075,2.65 ; 14.865,-2.65 15.615,-2.65 ; 14.865,2.65 15.615,2.65 ; 17.405,-2.65 18.155,-2.65 ; 17.405,2.65 18.155,2.65 ; 19.945,-2.65 20.695,-2.65 ; 19.945,2.65 20.695,2.65 ; 22.485,-2.65 23.235,-2.65 ; 22.485,2.65 23.235,2.65 ; 25.025,-2.65 25.775,-2.65 ; 25.025,2.65 25.775,2.65 ; 27.565,-2.65 28.315,-2.65 ; 27.565,2.65 28.315,2.65 ; 30.105,-2.65 30.855,-2.65 ; 30.105,2.65 30.855,2.65 ; 32.645,-2.65 33.395,-2.65 ; 32.645,2.65 33.395,2.65 ; 35.185,-2.65 35.935,-2.65 ; 35.185,2.65 35.935,2.65 ; 37.725,-2.65 38.475,-2.65 ; 37.725,2.65 38.475,2.65 ; 40.265,-2.65 41.015,-2.65 ; 40.265,2.65 41.015,2.65 ; 42.805,-2.65 43.555,-2.65 ; 42.805,2.65 43.555,2.65 ; 45.345,-2.65 46.095,-2.65 ; 45.345,2.65 46.095,2.65 ; 47.885,-2.65 48.635,-2.65 ; 47.885,2.65 48.635,2.65 ; 50.425,-2.65 51.175,-2.65 ; 50.425,2.65 51.175,2.65 ; 52.965,-2.65 53.715,-2.65 ; 52.965,2.65 53.715,2.65 ; 55.505,-2.65 56.255,-2.65 ; 55.505,2.65 56.255,2.65 ; 58.045,-2.65 58.795,-2.65 ; 58.045,2.65 58.795,2.65 ; 60.585,-2.65 61.07,-2.65 61.07,2.65 60.585,2.65
Top Assembly:
  lines w0.254: -60.19,2.54 -59.69,1.833 -59.19,2.54 ; -60.96,-2.54 60.96,-2.54 60.96,2.54 -60.96,2.54 -60.96,-2.54
  text "'.Designator'" at -4.047,-2.68 h1
Top Courtyard:
  lines w0.254: -61.46,-4.07 61.46,-4.07 61.46,4.07 -61.46,4.07 -61.46,-4.07
Top Designator:
  text ".Designator" at -7.618,-0.508 h1.52

## Samtec_HLE-148-02-xxx-DV-BE_2x48_P2.54mm_Horizontal [mm]
pads (192):
  rect 1.27x1.68 smd: 1(-59.69,2.72) 2(-59.69,-2.72) 3(-57.15,2.72) 4(-57.15,-2.72) 5(-54.61,2.72) 6(-54.61,-2.72) 7(-52.07,2.72) 8(-52.07,-2.72) 9(-49.53,2.72) 10(-49.53,-2.72) 11(-46.99,2.72) 12(-46.99,-2.72) 13(-44.45,2.72) 14(-44.45,-2.72) 15(-41.91,2.72) 16(-41.91,-2.72) 17(-39.37,2.72) 18(-39.37,-2.72) 19(-36.83,2.72) 20(-36.83,-2.72) 21(-34.29,2.72) 22(-34.29,-2.72) 23(-31.75,2.72) 24(-31.75,-2.72) 25(-29.21,2.72) 26(-29.21,-2.72) 27(-26.67,2.72) 28(-26.67,-2.72) 29(-24.13,2.72) 30(-24.13,-2.72) 31(-21.59,2.72) 32(-21.59,-2.72) 33(-19.05,2.72) 34(-19.05,-2.72) 35(-16.51,2.72) 36(-16.51,-2.72) 37(-13.97,2.72) 38(-13.97,-2.72) 39(-11.43,2.72) 40(-11.43,-2.72) 41(-8.89,2.72) 42(-8.89,-2.72) 43(-6.35,2.72) 44(-6.35,-2.72) 45(-3.81,2.72) 46(-3.81,-2.72) 47(-1.27,2.72) 48(-1.27,-2.72) 49(1.27,2.72) 50(1.27,-2.72) 51(3.81,2.72) 52(3.81,-2.72) 53(6.35,2.72) 54(6.35,-2.72) 55(8.89,2.72) 56(8.89,-2.72) 57(11.43,2.72) 58(11.43,-2.72) 59(13.97,2.72) 60(13.97,-2.72) 61(16.51,2.72) 62(16.51,-2.72) 63(19.05,2.72) 64(19.05,-2.72) 65(21.59,2.72) 66(21.59,-2.72) 67(24.13,2.72) 68(24.13,-2.72) 69(26.67,2.72) 70(26.67,-2.72) 71(29.21,2.72) 72(29.21,-2.72) 73(31.75,2.72) 74(31.75,-2.72) 75(34.29,2.72) 76(34.29,-2.72) 77(36.83,2.72) 78(36.83,-2.72) 79(39.37,2.72) 80(39.37,-2.72) 81(41.91,2.72) 82(41.91,-2.72) 83(44.45,2.72) 84(44.45,-2.72) 85(46.99,2.72) 86(46.99,-2.72) 87(49.53,2.72) 88(49.53,-2.72) 89(52.07,2.72) 90(52.07,-2.72) 91(54.61,2.72) 92(54.61,-2.72) 93(57.15,2.72) 94(57.15,-2.72) 95(59.69,2.72) 96(59.69,-2.72)
  round 0.97 hole 0.97: Un1(-59.69,1.27) Un2(-59.69,-1.27) Un3(-57.15,1.27) Un4(-57.15,-1.27) Un5(-54.61,1.27) Un6(-54.61,-1.27) Un7(-52.07,1.27) Un8(-52.07,-1.27) Un9(-49.53,1.27) Un10(-49.53,-1.27) Un11(-46.99,1.27) Un12(-46.99,-1.27) Un13(-44.45,1.27) Un14(-44.45,-1.27) Un15(-41.91,1.27) Un16(-41.91,-1.27) Un17(-39.37,1.27) Un18(-39.37,-1.27) Un19(-36.83,1.27) Un20(-36.83,-1.27) Un21(-34.29,1.27) Un22(-34.29,-1.27) Un23(-31.75,1.27) Un24(-31.75,-1.27) Un25(-29.21,1.27) Un26(-29.21,-1.27) Un27(-26.67,1.27) Un28(-26.67,-1.27) Un29(-24.13,1.27) Un30(-24.13,-1.27) Un31(-21.59,1.27) Un32(-21.59,-1.27) Un33(-19.05,1.27) Un34(-19.05,-1.27) Un35(-16.51,1.27) Un36(-16.51,-1.27) Un37(-13.97,1.27) Un38(-13.97,-1.27) Un39(-11.43,1.27) Un40(-11.43,-1.27) Un41(-8.89,1.27) Un42(-8.89,-1.27) Un43(-6.35,1.27) Un44(-6.35,-1.27) Un45(-3.81,1.27) Un46(-3.81,-1.27) Un47(-1.27,1.27) Un48(-1.27,-1.27) Un49(1.27,1.27) Un50(1.27,-1.27) Un51(3.81,1.27) Un52(3.81,-1.27) Un53(6.35,1.27) Un54(6.35,-1.27) Un55(8.89,1.27) Un56(8.89,-1.27) Un57(11.43,1.27) Un58(11.43,-1.27) Un59(13.97,1.27) Un60(13.97,-1.27) Un61(16.51,1.27) Un62(16.51,-1.27) Un63(19.05,1.27) Un64(19.05,-1.27) Un65(21.59,1.27) Un66(21.59,-1.27) Un67(24.13,1.27) Un68(24.13,-1.27) Un69(26.67,1.27) Un70(26.67,-1.27) Un71(29.21,1.27) Un72(29.21,-1.27) Un73(31.75,1.27) Un74(31.75,-1.27) Un75(34.29,1.27) Un76(34.29,-1.27) Un77(36.83,1.27) Un78(36.83,-1.27) Un79(39.37,1.27) Un80(39.37,-1.27) Un81(41.91,1.27) Un82(41.91,-1.27) Un83(44.45,1.27) Un84(44.45,-1.27) Un85(46.99,1.27) Un86(46.99,-1.27) Un87(49.53,1.27) Un88(49.53,-1.27) Un89(52.07,1.27) Un90(52.07,-1.27) Un91(54.61,1.27) Un92(54.61,-1.27) Un93(57.15,1.27) Un94(57.15,-1.27) Un95(59.69,1.27) Un96(59.69,-1.27)
F.SilkS:
  lines w0.254: -60.585,-2.65 -61.07,-2.65 -61.07,2.65 -60.585,2.65 -60.585,3.56 ; -58.795,-2.65 -58.045,-2.65 ; -58.795,2.65 -58.045,2.65 ; -56.255,-2.65 -55.505,-2.65 ; -56.255,2.65 -55.505,2.65 ; -53.715,-2.65 -52.965,-2.65 ; -53.715,2.65 -52.965,2.65 ; -51.175,-2.65 -50.425,-2.65 ; -51.175,2.65 -50.425,2.65 ; -48.635,-2.65 -47.885,-2.65 ; -48.635,2.65 -47.885,2.65 ; -46.095,-2.65 -45.345,-2.65 ; -46.095,2.65 -45.345,2.65 ; -43.555,-2.65 -42.805,-2.65 ; -43.555,2.65 -42.805,2.65 ; -41.015,-2.65 -40.265,-2.65 ; -41.015,2.65 -40.265,2.65 ; -38.475,-2.65 -37.725,-2.65 ; -38.475,2.65 -37.725,2.65 ; -35.935,-2.65 -35.185,-2.65 ; -35.935,2.65 -35.185,2.65 ; -33.395,-2.65 -32.645,-2.65 ; -33.395,2.65 -32.645,2.65 ; -30.855,-2.65 -30.105,-2.65 ; -30.855,2.65 -30.105,2.65 ; -28.315,-2.65 -27.565,-2.65 ; -28.315,2.65 -27.565,2.65 ; -25.775,-2.65 -25.025,-2.65 ; -25.775,2.65 -25.025,2.65 ; -23.235,-2.65 -22.485,-2.65 ; -23.235,2.65 -22.485,2.65 ; -20.695,-2.65 -19.945,-2.65 ; -20.695,2.65 -19.945,2.65 ; -18.155,-2.65 -17.405,-2.65 ; -18.155,2.65 -17.405,2.65 ; -15.615,-2.65 -14.865,-2.65 ; -15.615,2.65 -14.865,2.65 ; -13.075,-2.65 -12.325,-2.65 ; -13.075,2.65 -12.325,2.65 ; -10.535,-2.65 -9.785,-2.65 ; -10.535,2.65 -9.785,2.65 ; -7.995,-2.65 -7.245,-2.65 ; -7.995,2.65 -7.245,2.65 ; -5.455,-2.65 -4.705,-2.65 ; -5.455,2.65 -4.705,2.65 ; -2.915,-2.65 -2.165,-2.65 ; -2.915,2.65 -2.165,2.65 ; -0.375,-2.65 0.375,-2.65 ; -0.375,2.65 0.375,2.65 ; 2.165,-2.65 2.915,-2.65 ; 2.165,2.65 2.915,2.65 ; 4.705,-2.65 5.455,-2.65 ; 4.705,2.65 5.455,2.65 ; 7.245,-2.65 7.995,-2.65 ; 7.245,2.65 7.995,2.65 ; 9.785,-2.65 10.535,-2.65 ; 9.785,2.65 10.535,2.65 ; 12.325,-2.65 13.075,-2.65 ; 12.325,2.65 13.075,2.65 ; 14.865,-2.65 15.615,-2.65 ; 14.865,2.65 15.615,2.65 ; 17.405,-2.65 18.155,-2.65 ; 17.405,2.65 18.155,2.65 ; 19.945,-2.65 20.695,-2.65 ; 19.945,2.65 20.695,2.65 ; 22.485,-2.65 23.235,-2.65 ; 22.485,2.65 23.235,2.65 ; 25.025,-2.65 25.775,-2.65 ; 25.025,2.65 25.775,2.65 ; 27.565,-2.65 28.315,-2.65 ; 27.565,2.65 28.315,2.65 ; 30.105,-2.65 30.855,-2.65 ; 30.105,2.65 30.855,2.65 ; 32.645,-2.65 33.395,-2.65 ; 32.645,2.65 33.395,2.65 ; 35.185,-2.65 35.935,-2.65 ; 35.185,2.65 35.935,2.65 ; 37.725,-2.65 38.475,-2.65 ; 37.725,2.65 38.475,2.65 ; 40.265,-2.65 41.015,-2.65 ; 40.265,2.65 41.015,2.65 ; 42.805,-2.65 43.555,-2.65 ; 42.805,2.65 43.555,2.65 ; 45.345,-2.65 46.095,-2.65 ; 45.345,2.65 46.095,2.65 ; 47.885,-2.65 48.635,-2.65 ; 47.885,2.65 48.635,2.65 ; 50.425,-2.65 51.175,-2.65 ; 50.425,2.65 51.175,2.65 ; 52.965,-2.65 53.715,-2.65 ; 52.965,2.65 53.715,2.65 ; 55.505,-2.65 56.255,-2.65 ; 55.505,2.65 56.255,2.65 ; 58.045,-2.65 58.795,-2.65 ; 58.045,2.65 58.795,2.65 ; 60.585,-2.65 61.07,-2.65 61.07,2.65 60.585,2.65
Top Assembly:
  lines w0.254: -60.19,2.54 -59.69,1.833 -59.19,2.54 ; -60.96,-2.54 60.96,-2.54 60.96,2.54 -60.96,2.54 -60.96,-2.54
  text "'.Designator'" at -4.047,-2.68 h1
Top Courtyard:
  lines w0.254: -61.46,-4.07 61.46,-4.07 61.46,4.07 -61.46,4.07 -61.46,-4.07
Top Designator:
  text ".Designator" at -7.618,-0.508 h1.52

## Samtec_HLE-148-02-xxx-DV-LC_2x48_P2.54mm_Horizontal [mm]
pads (98):
  rect 1.27x2.29 smd: 1(-59.69,2.525) 2(-59.69,-2.525) 3(-57.15,2.525) 4(-57.15,-2.525) 5(-54.61,2.525) 6(-54.61,-2.525) 7(-52.07,2.525) 8(-52.07,-2.525) 9(-49.53,2.525) 10(-49.53,-2.525) 11(-46.99,2.525) 12(-46.99,-2.525) 13(-44.45,2.525) 14(-44.45,-2.525) 15(-41.91,2.525) 16(-41.91,-2.525) 17(-39.37,2.525) 18(-39.37,-2.525) 19(-36.83,2.525) 20(-36.83,-2.525) 21(-34.29,2.525) 22(-34.29,-2.525) 23(-31.75,2.525) 24(-31.75,-2.525) 25(-29.21,2.525) 26(-29.21,-2.525) 27(-26.67,2.525) 28(-26.67,-2.525) 29(-24.13,2.525) 30(-24.13,-2.525) 31(-21.59,2.525) 32(-21.59,-2.525) 33(-19.05,2.525) 34(-19.05,-2.525) 35(-16.51,2.525) 36(-16.51,-2.525) 37(-13.97,2.525) 38(-13.97,-2.525) 39(-11.43,2.525) 40(-11.43,-2.525) 41(-8.89,2.525) 42(-8.89,-2.525) 43(-6.35,2.525) 44(-6.35,-2.525) 45(-3.81,2.525) 46(-3.81,-2.525) 47(-1.27,2.525) 48(-1.27,-2.525) 49(1.27,2.525) 50(1.27,-2.525) 51(3.81,2.525) 52(3.81,-2.525) 53(6.35,2.525) 54(6.35,-2.525) 55(8.89,2.525) 56(8.89,-2.525) 57(11.43,2.525) 58(11.43,-2.525) 59(13.97,2.525) 60(13.97,-2.525) 61(16.51,2.525) 62(16.51,-2.525) 63(19.05,2.525) 64(19.05,-2.525) 65(21.59,2.525) 66(21.59,-2.525) 67(24.13,2.525) 68(24.13,-2.525) 69(26.67,2.525) 70(26.67,-2.525) 71(29.21,2.525) 72(29.21,-2.525) 73(31.75,2.525) 74(31.75,-2.525) 75(34.29,2.525) 76(34.29,-2.525) 77(36.83,2.525) 78(36.83,-2.525) 79(39.37,2.525) 80(39.37,-2.525) 81(41.91,2.525) 82(41.91,-2.525) 83(44.45,2.525) 84(44.45,-2.525) 85(46.99,2.525) 86(46.99,-2.525) 87(49.53,2.525) 88(49.53,-2.525) 89(52.07,2.525) 90(52.07,-2.525) 91(54.61,2.525) 92(54.61,-2.525) 93(57.15,2.525) 94(57.15,-2.525) 95(59.69,2.525) 96(59.69,-2.525)
  round 1.19 hole 1.19: Un1(-58.42,0) Un2(58.42,0)
F.SilkS:
  lines w0.254: -60.585,-2.65 -61.07,-2.65 -61.07,2.65 -60.585,2.65 -60.585,3.67 ; -58.795,-2.65 -58.045,-2.65 ; -58.795,2.65 -58.045,2.65 ; -56.255,-2.65 -55.505,-2.65 ; -56.255,2.65 -55.505,2.65 ; -53.715,-2.65 -52.965,-2.65 ; -53.715,2.65 -52.965,2.65 ; -51.175,-2.65 -50.425,-2.65 ; -51.175,2.65 -50.425,2.65 ; -48.635,-2.65 -47.885,-2.65 ; -48.635,2.65 -47.885,2.65 ; -46.095,-2.65 -45.345,-2.65 ; -46.095,2.65 -45.345,2.65 ; -43.555,-2.65 -42.805,-2.65 ; -43.555,2.65 -42.805,2.65 ; -41.015,-2.65 -40.265,-2.65 ; -41.015,2.65 -40.265,2.65 ; -38.475,-2.65 -37.725,-2.65 ; -38.475,2.65 -37.725,2.65 ; -35.935,-2.65 -35.185,-2.65 ; -35.935,2.65 -35.185,2.65 ; -33.395,-2.65 -32.645,-2.65 ; -33.395,2.65 -32.645,2.65 ; -30.855,-2.65 -30.105,-2.65 ; -30.855,2.65 -30.105,2.65 ; -28.315,-2.65 -27.565,-2.65 ; -28.315,2.65 -27.565,2.65 ; -25.775,-2.65 -25.025,-2.65 ; -25.775,2.65 -25.025,2.65 ; -23.235,-2.65 -22.485,-2.65 ; -23.235,2.65 -22.485,2.65 ; -20.695,-2.65 -19.945,-2.65 ; -20.695,2.65 -19.945,2.65 ; -18.155,-2.65 -17.405,-2.65 ; -18.155,2.65 -17.405,2.65 ; -15.615,-2.65 -14.865,-2.65 ; -15.615,2.65 -14.865,2.65 ; -13.075,-2.65 -12.325,-2.65 ; -13.075,2.65 -12.325,2.65 ; -10.535,-2.65 -9.785,-2.65 ; -10.535,2.65 -9.785,2.65 ; -7.995,-2.65 -7.245,-2.65 ; -7.995,2.65 -7.245,2.65 ; -5.455,-2.65 -4.705,-2.65 ; -5.455,2.65 -4.705,2.65 ; -2.915,-2.65 -2.165,-2.65 ; -2.915,2.65 -2.165,2.65 ; -0.375,-2.65 0.375,-2.65 ; -0.375,2.65 0.375,2.65 ; 2.165,-2.65 2.915,-2.65 ; 2.165,2.65 2.915,2.65 ; 4.705,-2.65 5.455,-2.65 ; 4.705,2.65 5.455,2.65 ; 7.245,-2.65 7.995,-2.65 ; 7.245,2.65 7.995,2.65 ; 9.785,-2.65 10.535,-2.65 ; 9.785,2.65 10.535,2.65 ; 12.325,-2.65 13.075,-2.65 ; 12.325,2.65 13.075,2.65 ; 14.865,-2.65 15.615,-2.65 ; 14.865,2.65 15.615,2.65 ; 17.405,-2.65 18.155,-2.65 ; 17.405,2.65 18.155,2.65 ; 19.945,-2.65 20.695,-2.65 ; 19.945,2.65 20.695,2.65 ; 22.485,-2.65 23.235,-2.65 ; 22.485,2.65 23.235,2.65 ; 25.025,-2.65 25.775,-2.65 ; 25.025,2.65 25.775,2.65 ; 27.565,-2.65 28.315,-2.65 ; 27.565,2.65 28.315,2.65 ; 30.105,-2.65 30.855,-2.65 ; 30.105,2.65 30.855,2.65 ; 32.645,-2.65 33.395,-2.65 ; 32.645,2.65 33.395,2.65 ; 35.185,-2.65 35.935,-2.65 ; 35.185,2.65 35.935,2.65 ; 37.725,-2.65 38.475,-2.65 ; 37.725,2.65 38.475,2.65 ; 40.265,-2.65 41.015,-2.65 ; 40.265,2.65 41.015,2.65 ; 42.805,-2.65 43.555,-2.65 ; 42.805,2.65 43.555,2.65 ; 45.345,-2.65 46.095,-2.65 ; 45.345,2.65 46.095,2.65 ; 47.885,-2.65 48.635,-2.65 ; 47.885,2.65 48.635,2.65 ; 50.425,-2.65 51.175,-2.65 ; 50.425,2.65 51.175,2.65 ; 52.965,-2.65 53.715,-2.65 ; 52.965,2.65 53.715,2.65 ; 55.505,-2.65 56.255,-2.65 ; 55.505,2.65 56.255,2.65 ; 58.045,-2.65 58.795,-2.65 ; 58.045,2.65 58.795,2.65 ; 60.585,-2.65 61.07,-2.65 61.07,2.65 60.585,2.65
Top Assembly:
  lines w0.254: -60.19,2.54 -59.69,1.833 -59.19,2.54 ; -60.96,-2.54 60.96,-2.54 60.96,2.54 -60.96,2.54 -60.96,-2.54
  text "'.Designator'" at -4.047,-2.68 h1
Top Courtyard:
  lines w0.254: -61.46,-4.17 61.46,-4.17 61.46,4.17 -61.46,4.17 -61.46,-4.17
Top Designator:
  text ".Designator" at -7.618,-0.508 h1.52

## Samtec_HLE-148-02-xxx-DV_2x48_P2.54mm_Horizontal [mm]
pads (96):
  rect 1.27x2.29 smd: 1(-59.69,2.525) 2(-59.69,-2.525) 3(-57.15,2.525) 4(-57.15,-2.525) 5(-54.61,2.525) 6(-54.61,-2.525) 7(-52.07,2.525) 8(-52.07,-2.525) 9(-49.53,2.525) 10(-49.53,-2.525) 11(-46.99,2.525) 12(-46.99,-2.525) 13(-44.45,2.525) 14(-44.45,-2.525) 15(-41.91,2.525) 16(-41.91,-2.525) 17(-39.37,2.525) 18(-39.37,-2.525) 19(-36.83,2.525) 20(-36.83,-2.525) 21(-34.29,2.525) 22(-34.29,-2.525) 23(-31.75,2.525) 24(-31.75,-2.525) 25(-29.21,2.525) 26(-29.21,-2.525) 27(-26.67,2.525) 28(-26.67,-2.525) 29(-24.13,2.525) 30(-24.13,-2.525) 31(-21.59,2.525) 32(-21.59,-2.525) 33(-19.05,2.525) 34(-19.05,-2.525) 35(-16.51,2.525) 36(-16.51,-2.525) 37(-13.97,2.525) 38(-13.97,-2.525) 39(-11.43,2.525) 40(-11.43,-2.525) 41(-8.89,2.525) 42(-8.89,-2.525) 43(-6.35,2.525) 44(-6.35,-2.525) 45(-3.81,2.525) 46(-3.81,-2.525) 47(-1.27,2.525) 48(-1.27,-2.525) 49(1.27,2.525) 50(1.27,-2.525) 51(3.81,2.525) 52(3.81,-2.525) 53(6.35,2.525) 54(6.35,-2.525) 55(8.89,2.525) 56(8.89,-2.525) 57(11.43,2.525) 58(11.43,-2.525) 59(13.97,2.525) 60(13.97,-2.525) 61(16.51,2.525) 62(16.51,-2.525) 63(19.05,2.525) 64(19.05,-2.525) 65(21.59,2.525) 66(21.59,-2.525) 67(24.13,2.525) 68(24.13,-2.525) 69(26.67,2.525) 70(26.67,-2.525) 71(29.21,2.525) 72(29.21,-2.525) 73(31.75,2.525) 74(31.75,-2.525) 75(34.29,2.525) 76(34.29,-2.525) 77(36.83,2.525) 78(36.83,-2.525) 79(39.37,2.525) 80(39.37,-2.525) 81(41.91,2.525) 82(41.91,-2.525) 83(44.45,2.525) 84(44.45,-2.525) 85(46.99,2.525) 86(46.99,-2.525) 87(49.53,2.525) 88(49.53,-2.525) 89(52.07,2.525) 90(52.07,-2.525) 91(54.61,2.525) 92(54.61,-2.525) 93(57.15,2.525) 94(57.15,-2.525) 95(59.69,2.525) 96(59.69,-2.525)
F.SilkS:
  lines w0.254: -60.585,-2.65 -61.07,-2.65 -61.07,2.65 -60.585,2.65 -60.585,3.67 ; -58.795,-2.65 -58.045,-2.65 ; -58.795,2.65 -58.045,2.65 ; -56.255,-2.65 -55.505,-2.65 ; -56.255,2.65 -55.505,2.65 ; -53.715,-2.65 -52.965,-2.65 ; -53.715,2.65 -52.965,2.65 ; -51.175,-2.65 -50.425,-2.65 ; -51.175,2.65 -50.425,2.65 ; -48.635,-2.65 -47.885,-2.65 ; -48.635,2.65 -47.885,2.65 ; -46.095,-2.65 -45.345,-2.65 ; -46.095,2.65 -45.345,2.65 ; -43.555,-2.65 -42.805,-2.65 ; -43.555,2.65 -42.805,2.65 ; -41.015,-2.65 -40.265,-2.65 ; -41.015,2.65 -40.265,2.65 ; -38.475,-2.65 -37.725,-2.65 ; -38.475,2.65 -37.725,2.65 ; -35.935,-2.65 -35.185,-2.65 ; -35.935,2.65 -35.185,2.65 ; -33.395,-2.65 -32.645,-2.65 ; -33.395,2.65 -32.645,2.65 ; -30.855,-2.65 -30.105,-2.65 ; -30.855,2.65 -30.105,2.65 ; -28.315,-2.65 -27.565,-2.65 ; -28.315,2.65 -27.565,2.65 ; -25.775,-2.65 -25.025,-2.65 ; -25.775,2.65 -25.025,2.65 ; -23.235,-2.65 -22.485,-2.65 ; -23.235,2.65 -22.485,2.65 ; -20.695,-2.65 -19.945,-2.65 ; -20.695,2.65 -19.945,2.65 ; -18.155,-2.65 -17.405,-2.65 ; -18.155,2.65 -17.405,2.65 ; -15.615,-2.65 -14.865,-2.65 ; -15.615,2.65 -14.865,2.65 ; -13.075,-2.65 -12.325,-2.65 ; -13.075,2.65 -12.325,2.65 ; -10.535,-2.65 -9.785,-2.65 ; -10.535,2.65 -9.785,2.65 ; -7.995,-2.65 -7.245,-2.65 ; -7.995,2.65 -7.245,2.65 ; -5.455,-2.65 -4.705,-2.65 ; -5.455,2.65 -4.705,2.65 ; -2.915,-2.65 -2.165,-2.65 ; -2.915,2.65 -2.165,2.65 ; -0.375,-2.65 0.375,-2.65 ; -0.375,2.65 0.375,2.65 ; 2.165,-2.65 2.915,-2.65 ; 2.165,2.65 2.915,2.65 ; 4.705,-2.65 5.455,-2.65 ; 4.705,2.65 5.455,2.65 ; 7.245,-2.65 7.995,-2.65 ; 7.245,2.65 7.995,2.65 ; 9.785,-2.65 10.535,-2.65 ; 9.785,2.65 10.535,2.65 ; 12.325,-2.65 13.075,-2.65 ; 12.325,2.65 13.075,2.65 ; 14.865,-2.65 15.615,-2.65 ; 14.865,2.65 15.615,2.65 ; 17.405,-2.65 18.155,-2.65 ; 17.405,2.65 18.155,2.65 ; 19.945,-2.65 20.695,-2.65 ; 19.945,2.65 20.695,2.65 ; 22.485,-2.65 23.235,-2.65 ; 22.485,2.65 23.235,2.65 ; 25.025,-2.65 25.775,-2.65 ; 25.025,2.65 25.775,2.65 ; 27.565,-2.65 28.315,-2.65 ; 27.565,2.65 28.315,2.65 ; 30.105,-2.65 30.855,-2.65 ; 30.105,2.65 30.855,2.65 ; 32.645,-2.65 33.395,-2.65 ; 32.645,2.65 33.395,2.65 ; 35.185,-2.65 35.935,-2.65 ; 35.185,2.65 35.935,2.65 ; 37.725,-2.65 38.475,-2.65 ; 37.725,2.65 38.475,2.65 ; 40.265,-2.65 41.015,-2.65 ; 40.265,2.65 41.015,2.65 ; 42.805,-2.65 43.555,-2.65 ; 42.805,2.65 43.555,2.65 ; 45.345,-2.65 46.095,-2.65 ; 45.345,2.65 46.095,2.65 ; 47.885,-2.65 48.635,-2.65 ; 47.885,2.65 48.635,2.65 ; 50.425,-2.65 51.175,-2.65 ; 50.425,2.65 51.175,2.65 ; 52.965,-2.65 53.715,-2.65 ; 52.965,2.65 53.715,2.65 ; 55.505,-2.65 56.255,-2.65 ; 55.505,2.65 56.255,2.65 ; 58.045,-2.65 58.795,-2.65 ; 58.045,2.65 58.795,2.65 ; 60.585,-2.65 61.07,-2.65 61.07,2.65 60.585,2.65
Top Assembly:
  lines w0.254: -60.19,2.54 -59.69,1.833 -59.19,2.54 ; -60.96,-2.54 60.96,-2.54 60.96,2.54 -60.96,2.54 -60.96,-2.54
  text "'.Designator'" at -4.047,-2.68 h1
Top Courtyard:
  lines w0.254: -61.46,-4.17 61.46,-4.17 61.46,4.17 -61.46,4.17 -61.46,-4.17
Top Designator:
  text ".Designator" at -7.618,-0.508 h1.52

## Samtec_HLE-149-02-xxx-DV-A_2x49_P2.54mm_Horizontal [mm]
pads (100):
  rect 1.27x2.29 smd: 1(-60.96,2.525) 2(-60.96,-2.525) 3(-58.42,2.525) 4(-58.42,-2.525) 5(-55.88,2.525) 6(-55.88,-2.525) 7(-53.34,2.525) 8(-53.34,-2.525) 9(-50.8,2.525) 10(-50.8,-2.525) 11(-48.26,2.525) 12(-48.26,-2.525) 13(-45.72,2.525) 14(-45.72,-2.525) 15(-43.18,2.525) 16(-43.18,-2.525) 17(-40.64,2.525) 18(-40.64,-2.525) 19(-38.1,2.525) 20(-38.1,-2.525) 21(-35.56,2.525) 22(-35.56,-2.525) 23(-33.02,2.525) 24(-33.02,-2.525) 25(-30.48,2.525) 26(-30.48,-2.525) 27(-27.94,2.525) 28(-27.94,-2.525) 29(-25.4,2.525) 30(-25.4,-2.525) 31(-22.86,2.525) 32(-22.86,-2.525) 33(-20.32,2.525) 34(-20.32,-2.525) 35(-17.78,2.525) 36(-17.78,-2.525) 37(-15.24,2.525) 38(-15.24,-2.525) 39(-12.7,2.525) 40(-12.7,-2.525) 41(-10.16,2.525) 42(-10.16,-2.525) 43(-7.62,2.525) 44(-7.62,-2.525) 45(-5.08,2.525) 46(-5.08,-2.525) 47(-2.54,2.525) 48(-2.54,-2.525) 49(0,2.525) 50(0,-2.525) 51(2.54,2.525) 52(2.54,-2.525) 53(5.08,2.525) 54(5.08,-2.525) 55(7.62,2.525) 56(7.62,-2.525) 57(10.16,2.525) 58(10.16,-2.525) 59(12.7,2.525) 60(12.7,-2.525) 61(15.24,2.525) 62(15.24,-2.525) 63(17.78,2.525) 64(17.78,-2.525) 65(20.32,2.525) 66(20.32,-2.525) 67(22.86,2.525) 68(22.86,-2.525) 69(25.4,2.525) 70(25.4,-2.525) 71(27.94,2.525) 72(27.94,-2.525) 73(30.48,2.525) 74(30.48,-2.525) 75(33.02,2.525) 76(33.02,-2.525) 77(35.56,2.525) 78(35.56,-2.525) 79(38.1,2.525) 80(38.1,-2.525) 81(40.64,2.525) 82(40.64,-2.525) 83(43.18,2.525) 84(43.18,-2.525) 85(45.72,2.525) 86(45.72,-2.525) 87(48.26,2.525) 88(48.26,-2.525) 89(50.8,2.525) 90(50.8,-2.525) 91(53.34,2.525) 92(53.34,-2.525) 93(55.88,2.525) 94(55.88,-2.525) 95(58.42,2.525) 96(58.42,-2.525) 97(60.96,2.525) 98(60.96,-2.525)
  round 1.78 hole 1.78: Un1(-59.69,0) Un2(59.69,0)
F.SilkS:
  lines w0.254: -61.855,-2.65 -62.34,-2.65 -62.34,2.65 -61.855,2.65 -61.855,3.67 ; -60.065,-2.65 -59.315,-2.65 ; -60.065,2.65 -59.315,2.65 ; -57.525,-2.65 -56.775,-2.65 ; -57.525,2.65 -56.775,2.65 ; -54.985,-2.65 -54.235,-2.65 ; -54.985,2.65 -54.235,2.65 ; -52.445,-2.65 -51.695,-2.65 ; -52.445,2.65 -51.695,2.65 ; -49.905,-2.65 -49.155,-2.65 ; -49.905,2.65 -49.155,2.65 ; -47.365,-2.65 -46.615,-2.65 ; -47.365,2.65 -46.615,2.65 ; -44.825,-2.65 -44.075,-2.65 ; -44.825,2.65 -44.075,2.65 ; -42.285,-2.65 -41.535,-2.65 ; -42.285,2.65 -41.535,2.65 ; -39.745,-2.65 -38.995,-2.65 ; -39.745,2.65 -38.995,2.65 ; -37.205,-2.65 -36.455,-2.65 ; -37.205,2.65 -36.455,2.65 ; -34.665,-2.65 -33.915,-2.65 ; -34.665,2.65 -33.915,2.65 ; -32.125,-2.65 -31.375,-2.65 ; -32.125,2.65 -31.375,2.65 ; -29.585,-2.65 -28.835,-2.65 ; -29.585,2.65 -28.835,2.65 ; -27.045,-2.65 -26.295,-2.65 ; -27.045,2.65 -26.295,2.65 ; -24.505,-2.65 -23.755,-2.65 ; -24.505,2.65 -23.755,2.65 ; -21.965,-2.65 -21.215,-2.65 ; -21.965,2.65 -21.215,2.65 ; -19.425,-2.65 -18.675,-2.65 ; -19.425,2.65 -18.675,2.65 ; -16.885,-2.65 -16.135,-2.65 ; -16.885,2.65 -16.135,2.65 ; -14.345,-2.65 -13.595,-2.65 ; -14.345,2.65 -13.595,2.65 ; -11.805,-2.65 -11.055,-2.65 ; -11.805,2.65 -11.055,2.65 ; -9.265,-2.65 -8.515,-2.65 ; -9.265,2.65 -8.515,2.65 ; -6.725,-2.65 -5.975,-2.65 ; -6.725,2.65 -5.975,2.65 ; -4.185,-2.65 -3.435,-2.65 ; -4.185,2.65 -3.435,2.65 ; -1.645,-2.65 -0.895,-2.65 ; -1.645,2.65 -0.895,2.65 ; 0.895,-2.65 1.645,-2.65 ; 0.895,2.65 1.645,2.65 ; 3.435,-2.65 4.185,-2.65 ; 3.435,2.65 4.185,2.65 ; 5.975,-2.65 6.725,-2.65 ; 5.975,2.65 6.725,2.65 ; 8.515,-2.65 9.265,-2.65 ; 8.515,2.65 9.265,2.65 ; 11.055,-2.65 11.805,-2.65 ; 11.055,2.65 11.805,2.65 ; 13.595,-2.65 14.345,-2.65 ; 13.595,2.65 14.345,2.65 ; 16.135,-2.65 16.885,-2.65 ; 16.135,2.65 16.885,2.65 ; 18.675,-2.65 19.425,-2.65 ; 18.675,2.65 19.425,2.65 ; 21.215,-2.65 21.965,-2.65 ; 21.215,2.65 21.965,2.65 ; 23.755,-2.65 24.505,-2.65 ; 23.755,2.65 24.505,2.65 ; 26.295,-2.65 27.045,-2.65 ; 26.295,2.65 27.045,2.65 ; 28.835,-2.65 29.585,-2.65 ; 28.835,2.65 29.585,2.65 ; 31.375,-2.65 32.125,-2.65 ; 31.375,2.65 32.125,2.65 ; 33.915,-2.65 34.665,-2.65 ; 33.915,2.65 34.665,2.65 ; 36.455,-2.65 37.205,-2.65 ; 36.455,2.65 37.205,2.65 ; 38.995,-2.65 39.745,-2.65 ; 38.995,2.65 39.745,2.65 ; 41.535,-2.65 42.285,-2.65 ; 41.535,2.65 42.285,2.65 ; 44.075,-2.65 44.825,-2.65 ; 44.075,2.65 44.825,2.65 ; 46.615,-2.65 47.365,-2.65 ; 46.615,2.65 47.365,2.65 ; 49.155,-2.65 49.905,-2.65 ; 49.155,2.65 49.905,2.65 ; 51.695,-2.65 52.445,-2.65 ; 51.695,2.65 52.445,2.65 ; 54.235,-2.65 54.985,-2.65 ; 54.235,2.65 54.985,2.65 ; 56.775,-2.65 57.525,-2.65 ; 56.775,2.65 57.525,2.65 ; 59.315,-2.65 60.065,-2.65 ; 59.315,2.65 60.065,2.65 ; 61.855,-2.65 62.34,-2.65 62.34,2.65 61.855,2.65
Top Assembly:
  lines w0.254: -61.46,2.54 -60.96,1.833 -60.46,2.54 ; -62.23,-2.54 62.23,-2.54 62.23,2.54 -62.23,2.54 -62.23,-2.54
  text "'.Designator'" at -4.047,-2.68 h1
Top Courtyard:
  lines w0.254: -62.73,-4.17 62.73,-4.17 62.73,4.17 -62.73,4.17 -62.73,-4.17
Top Designator:
  text ".Designator" at -7.618,-0.508 h1.52